# Altium footprint library Connector_Coaxial.PcbLib: 37 footprints (part 1 of 3)
Each footprint in its own frame and in the unit in brackets; x right, y up, seen from the top. Pads: shape width x height; smd on the part's side, far side on the other; paste and mask are expansions set on the pad; w line width, h text height; cw(c..) or ccw(c..) is an arc to the next point about the centre after c.
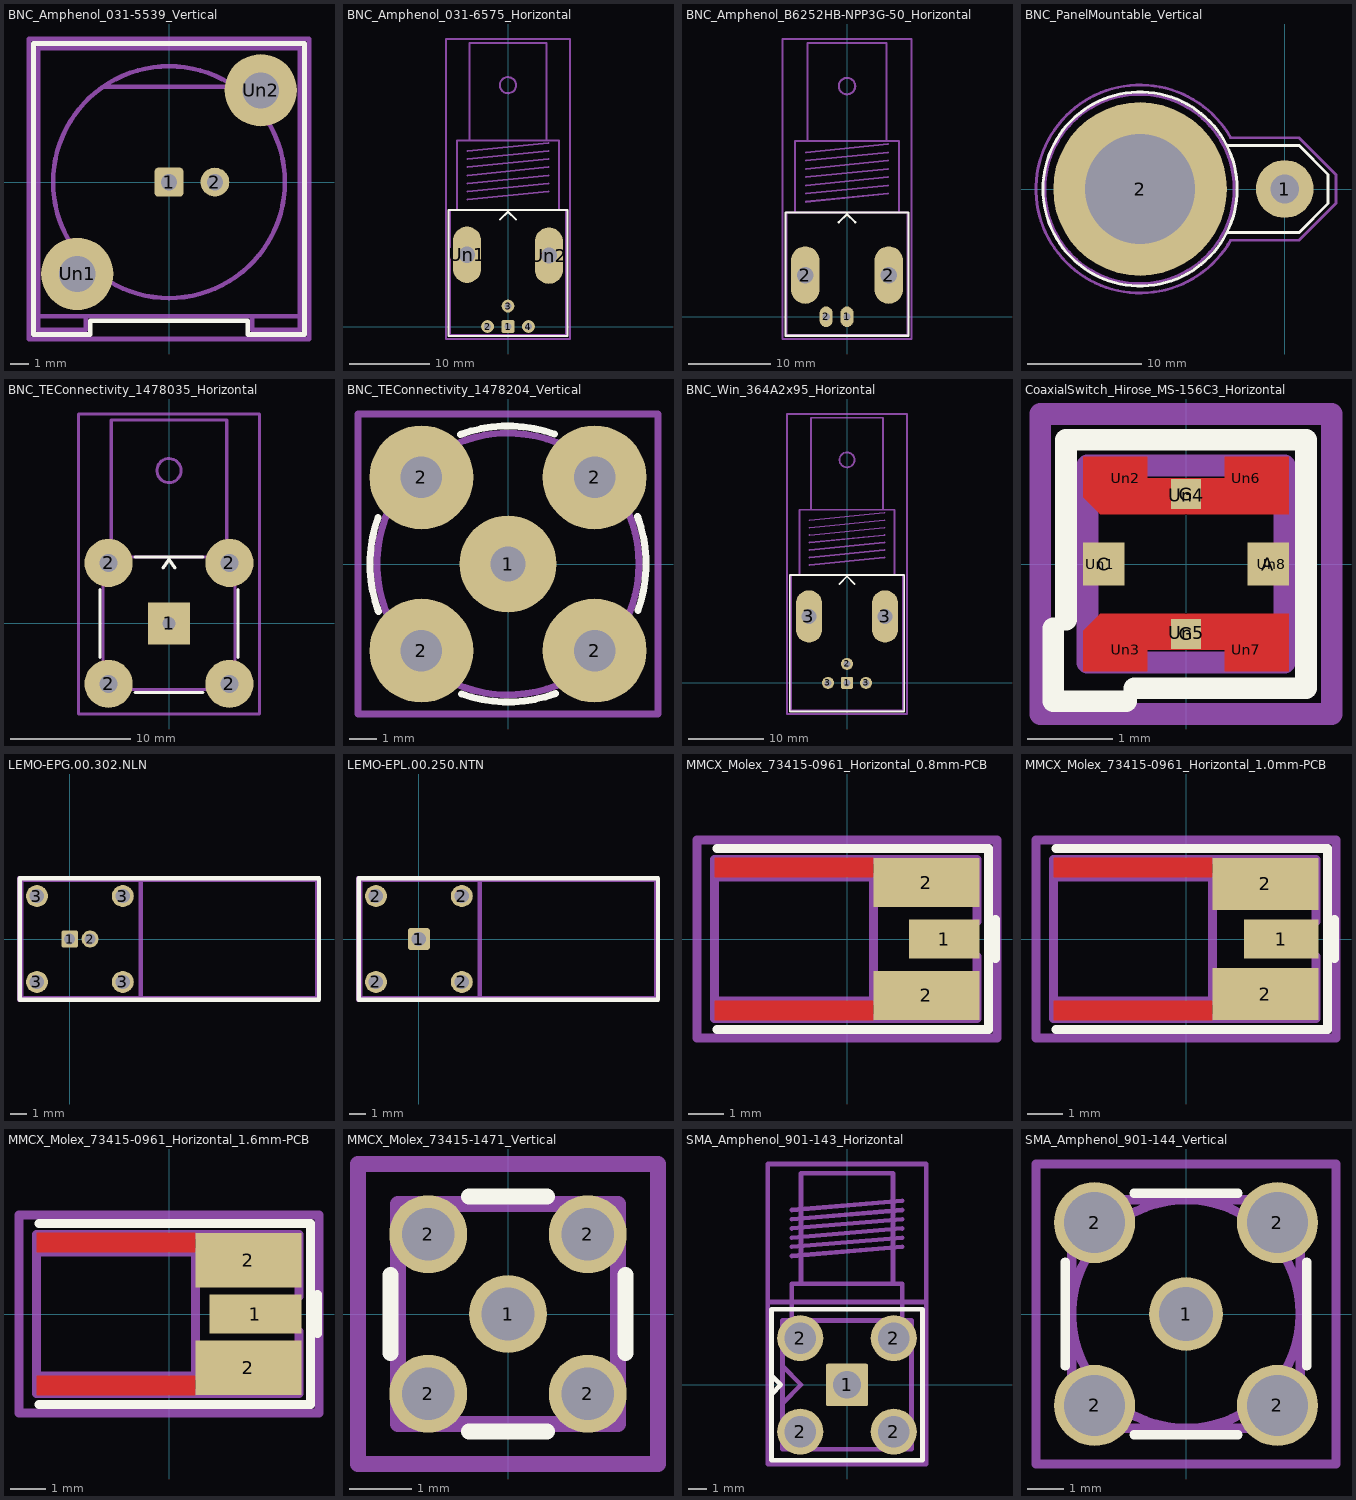
[diagram p0: the footprints below, top view; thin cyan lines are the x and y axes]

## BNC_Amphenol_031-5539_Vertical [mm]
pads (4):
  rrect25% 1.6x1.6 hole 0.9: 1(0,0)
  round 1.6 hole 0.9: 2(2.54,0)
  round 4 hole 2: Un1(-5.08,-5.08) Un2(5.08,5.08)
F.SilkS:
  lines w0.254: -7.5,-8.43 -4.35,-8.43 -4.35,-7.67 4.35,-7.67 4.35,-8.43 7.5,-8.43 7.5,7.67 -7.5,7.67 -7.5,-8.43
Top Assembly:
  circle w0.254: c0,0 r6.415
  lines w0.254: -3.636,5.285 3.636,5.285 ; -7.25,-7.42 7.25,-7.42 ; -7.25,-7.42 -7.25,7.42 7.25,7.42 7.25,-7.42 ; -7.25,-7.42 -4.6,-7.42 -4.6,-8.18 -7.25,-8.18 -7.25,-7.42 ; 7.25,-7.42 4.6,-7.42 4.6,-8.18 7.25,-8.18 7.25,-7.42
  text "'.Designator'" at -4.047,-0.84 h1
Top Courtyard:
  lines w0.254: -7.75,-8.68 7.75,-8.68 7.75,7.92 -7.75,7.92 -7.75,-8.68
Top Designator:
  text ".Designator" at -7.618,-0.888 h1.52

## BNC_Amphenol_031-6575_Horizontal [mm]
pads (6):
  rrect25% 1.6x1.6 hole 0.89: 1(0,0)
  round 1.6 hole 0.89: 2(-2.54,0) 3(0,2.54) 4(2.54,0)
  rrect100% 3.5x7 hole 2.01: Un1(-5.08,8.89) Un2(5.08,8.79)
F.SilkS:
  lines w0.254: -1,13.25 0,14.25 1,13.25 ; -7.35,-1.2 7.35,-1.2 7.35,14.45 -7.35,14.45 -7.35,-1.2
Top Assembly:
  circle w0.254: c0,29.92 r1
  lines w0.254: -6.35,14.45 -6.35,23.05 6.35,23.05 6.35,14.45 ; -5,15.75 5,16.75 ; -5,16.75 5,17.75 ; -5,17.75 5,18.75 ; -5,18.75 5,19.75 ; -5,19.75 5,20.75 ; -5,20.75 5,21.75 ; -5,21.75 5,22.75 ; -4.8,23.05 -4.8,35.15 4.8,35.15 4.8,23.05 ; -7.2,-1.05 7.2,-1.05 7.2,14.45 -7.2,14.45 -7.2,-1.05
  text "'.Designator'" at -4.047,-0.84 h1
Top Courtyard:
  lines w0.254: -7.7,-1.55 7.7,-1.55 7.7,35.65 -7.7,35.65 -7.7,-1.55
Top Designator:
  text ".Designator" at -7.618,16.542 h1.52

## BNC_Amphenol_B6252HB-NPP3G-50_Horizontal [mm]
pads (4):
  rrect100% 1.6x2.5 hole 0.89: 1(0,0) 2(-2.54,0)
  rrect100% 3.5x7 hole 2.01: 2(-5.08,5.08) 2(5.08,5.08)
F.SilkS:
  lines w0.254: -1,11.5 0,12.5 1,11.5 ; -7.5,-2.3 7.5,-2.3 7.5,12.7 -7.5,12.7 -7.5,-2.3
Top Assembly:
  circle w0.254: c0,28.07 r1
  lines w0.254: -6.35,12.7 -6.35,21.4 6.35,21.4 6.35,12.7 ; -5,14 5,15 ; -5,15 5,16 ; -5,16 5,17 ; -5,17 5,18 ; -5,18 5,19 ; -5,19 5,20 ; -5,20 5,21 ; -4.8,21.4 -4.8,33.3 4.8,33.3 4.8,21.4 ; -7.35,-2.2 7.35,-2.2 7.35,12.7 -7.35,12.7 -7.35,-2.2
  text "'.Designator'" at -4.047,-0.84 h1
Top Courtyard:
  lines w0.254: -7.85,-2.7 7.85,-2.7 7.85,33.8 -7.85,33.8 -7.85,-2.7
Top Designator:
  text ".Designator" at -7.618,15.042 h1.52

## BNC_PanelMountable_Vertical [mm]
pads (2):
  round 5.08 hole 2.54: 1(0,0)
  round 15.24 hole 9.65: 2(-12.7,0)
F.SilkS:
  circle w0.254: c-12.7,0 r8.519
  lines w0.254: -5.08,-3.81 1.27,-3.81 3.81,-1.27 3.81,1.27 1.27,3.81 -5.08,3.81
Top Assembly:
  circle w0.254: c-12.75,0 r8.31
  text "'.Designator'" at -12.937,-0.84 h1
Top Courtyard:
  lines w0.254: -4.75,4.5 1.25,4.5 4.5,1.25 4.5,-1.25 1.25,-4.5 -4.75,-4.5 cw(c-12.7,0) -4.748,4.497
Top Designator:
  text ".Designator" at -16.285,-0.508 h1.52

## BNC_TEConnectivity_1478035_Horizontal [mm]
pads (5):
  rect 3.5x3.5 hole 1.1: 1(0,0)
  round 4 hole 1.5: 2(-5.025,-5.025) 2(-5.025,5.025) 2(5.025,-5.025) 2(5.025,5.025)
F.SilkS:
  lines w0.254: -5.73,-2.825 -5.73,2.825 ; -2.825,-5.73 2.825,-5.73 ; -2.825,5.5 2.825,5.5 ; -0.5,4.6 0,5.3 0.5,4.6 ; 5.73,-2.825 5.73,2.825
Top Assembly:
  circle w0.254: c0,12.7 r1
  lines w0.254: -4.8,5.5 -4.8,16.9 4.8,16.9 4.8,5.5 ; -5.5,-5.5 5.5,-5.5 5.5,5.5 -5.5,5.5 -5.5,-5.5
  text "'.Designator'" at -4.047,-0.84 h1
Top Courtyard:
  lines w0.254: -7.53,-7.53 7.53,-7.53 7.53,17.4 -7.53,17.4 -7.53,-7.53
Top Designator:
  text ".Designator" at -7.618,4.427 h1.52

## BNC_TEConnectivity_1478204_Vertical [mil]
pads (5):
  round 140 hole 50: 1(0,0)
  round 150 hole 60: 2(-125,-125) 2(-125,125) 2(125,-125) 2(125,125)
F.SilkS:
  lines w10: -187.54,67.43 ccw(c0,0) -187.01,-68.9 ; -68.9,187.01 cw(c0,0) 67.43,187.54 ; -67.43,-187.54 ccw(c0,0) 68.9,-187.01 ; 187.01,68.9 cw(c0,0) 187.54,-67.43
Top Assembly:
  circle w10: c0,0 r188.98
  text "'.Designator'" at -159.32,-33.08 h39.37
Top Courtyard:
  lines w10: -216.54,-216.54 216.54,-216.54 216.54,216.54 -216.54,216.54 -216.54,-216.54
Top Designator:
  text ".Designator" at -299.9,-19.99 h60

## BNC_Win_364A2x95_Horizontal [mm]
pads (6):
  rrect25% 1.6x1.6 hole 0.89: 1(0,0)
  round 1.6 hole 0.89: 2(0,2.54) 3(-2.54,0) 3(2.54,0)
  rrect100% 3.5x7 hole 2.01: 3(-5.08,8.89) 3(5.08,8.89)
F.SilkS:
  lines w0.254: -1,13.25 0,14.25 1,13.25 ; -7.65,-3.8 7.65,-3.8 7.65,14.45 -7.65,14.45 -7.65,-3.8
Top Assembly:
  circle w0.254: c0,29.82 r1
  lines w0.254: -6.35,14.45 -6.35,23.15 6.35,23.15 6.35,14.45 ; -5,15.75 5,16.75 ; -5,16.75 5,17.75 ; -5,17.75 5,18.75 ; -5,18.75 5,19.75 ; -5,19.75 5,20.75 ; -5,20.75 5,21.75 ; -5,21.75 5,22.75 ; -4.8,23.15 -4.8,35.45 4.8,35.45 4.8,23.15 ; -7.5,-3.65 7.5,-3.65 7.5,14.45 -7.5,14.45 -7.5,-3.65
  text "'.Designator'" at -4.047,-0.74 h1
Top Courtyard:
  lines w0.254: -8,-4.15 8,-4.15 8,35.95 -8,35.95 -8,-4.15
Top Designator:
  text ".Designator" at -7.618,15.392 h1.52

## CoaxialSwitch_Hirose_MS-156C3_Horizontal [mm]
pads (12):
  rect 0.48x0.5 smd: A(0.96,0) C(-0.96,0)
  rect 0.35x0.35 smd: G(0,-0.815) G(0,0.815)
  rect 0.3x0.4 on Top Paste: Un1(-1,0) Un8(1,0)
  rect 0.4x0.4 on Top Paste: Un2(-0.7,1) Un3(-0.7,-1) Un6(0.7,1) Un7(0.7,-1)
  rect 0.5x0.3 on Top Paste: Un4(0,0.8) Un5(0,-0.8)
F.Cu:
  region: 1.2,-1.25 0.45,-1.25 0.45,-1 -0.45,-1 -0.45,-1.25 -1.2,-1.25 -1.2,-0.78 -1,-0.58 1.2,-0.58
  region: 1.2,0.58 -1,0.58 -1.2,0.78 -1.2,1.25 -0.45,1.25 -0.45,1 0.45,1 0.45,1.25 1.2,1.25
F.SilkS:
  lines w0.254: -1.55,-0.75 -1.55,-1.6 -0.7,-1.6 ; -1.4,-0.65 -1.4,1.45 1.4,1.45 1.4,-1.45 -0.6,-1.45
F.Mask:
  region: 1.2,-1.25 0.45,-1.25 0.45,-1 -0.45,-1 -0.45,-1.25 -1.2,-1.25 -1.2,-0.78 -1,-0.58 1.2,-0.58
  region: 1.2,0.58 -1,0.58 -1.2,0.78 -1.2,1.25 -0.45,1.25 -0.45,1 0.45,1 0.45,1.25 1.2,1.25
  lines w0.254: -1.15,-0.725 1.15,-0.725 1.15,0.725 -1.15,0.725 -1.15,-0.725
Top Assembly:
  lines w0.254: -1.15,-1.15 1.15,-1.15 1.15,1.15 -1.15,1.15 -1.15,-1.15
  text "'.Designator'" at -2.428,-0.504 h0.6
Top Courtyard:
  lines w0.254: -1.7,-1.75 1.7,-1.75 1.7,1.75 -1.7,1.75 -1.7,-1.75
Top Designator:
  text ".Designator" at -7.708,-0.508 h1.52
Cmts.User:
  text "KEEPOUT" at -1.291,0.2 h0.4
  text "No Resist" at -0.696,-0.555 h0.2
  text "No Traces" at -0.726,-0.15 h0.2

## LEMO-EPG.00.302.NLN [mm]
pads (6):
  rrect25% 1x1 hole 0.65: 1(0,0)
  round 1 hole 0.65: 2(1.2,0)
  round 1.3 hole 0.85: 3(-1.94,-2.54) 3(-1.94,2.54) 3(3.14,-2.54) 3(3.14,2.54)
F.SilkS:
  lines w0.254: -2.96,-3.6 14.74,-3.6 14.74,3.6 -2.96,3.6 -2.96,-3.6
Top Assembly:
  lines w0.254: -2.86,-3.5 14.64,-3.5 14.64,3.5 -2.86,3.5 -2.86,-3.5
  text "'.Designator'" at -4.047,3.76 h1
Top Courtyard:
  lines w0.254: -3,-3.6 4.2,-3.6 4.2,3.6 -3,3.6 -3,-3.6
Top Designator:
  text ".Designator" at -2.282,0.107 h1.52

## LEMO-EPL.00.250.NTN [mm]
pads (5):
  rrect25% 1.3x1.3 hole 0.85: 1(0,0)
  round 1.3 hole 0.85: 2(-2.54,-2.54) 2(-2.54,2.54) 2(2.54,-2.54) 2(2.54,2.54)
F.SilkS:
  lines w0.254: -3.56,-3.6 14.14,-3.6 14.14,3.6 -3.56,3.6 -3.56,-3.6
Top Assembly:
  lines w0.254: -3.46,-3.5 14.04,-3.5 14.04,3.5 -3.46,3.5 -3.46,-3.5
  text "'.Designator'" at -4.047,3.76 h1
Top Courtyard:
  lines w0.254: -3.6,-3.6 3.6,-3.6 3.6,3.6 -3.6,3.6 -3.6,-3.6
Top Designator:
  text ".Designator" at -2.582,0.107 h1.52

## MMCX_Molex_73415-0961_Horizontal_0.8mm-PCB [mm]
pads (3):
  rect 2x1.1 smd: 1(2.75,0)
  rect 3x1.4 smd: 2(2.25,-1.6) 2(2.25,1.6)
F.Cu:
  region: 0.75,-2.3 -3.75,-2.3 -3.75,-1.75 0.75,-1.75
  region: 0.75,1.75 -3.75,1.75 -3.75,2.3 0.75,2.3
F.SilkS:
  lines w0.254: -3.69,-2.56 4.01,-2.56 4.01,2.56 -3.69,2.56 ; 4.21,-0.55 4.21,0.55
F.Paste:
  region: 0.75,-2.3 -3.75,-2.3 -3.75,-1.75 0.75,-1.75
  region: 0.75,1.75 -3.75,1.75 -3.75,2.3 0.75,2.3
F.Mask:
  region: 0.75,-2.3 -3.75,-2.3 -3.75,-1.75 0.75,-1.75
  region: 0.75,1.75 -3.75,1.75 -3.75,2.3 0.75,2.3
Top Assembly:
  lines w0.254: -3.75,-2.25 3.68,-2.25 3.68,-0.5 3.18,0 3.68,0.5 3.68,2.25 -3.75,2.25 -3.75,-2.25
  text "'.Designator'" at -5.597,-0.84 h1
Top Courtyard:
  lines w0.254: -4.25,-2.8 4.25,-2.8 4.25,2.8 -4.25,2.8 -4.25,-2.8
Top Designator:
  text ".Designator" at -8.302,-0.508 h1.52
Board Shape:
  lines w0.254: -3.75,-1.75 0.75,-1.75 0.75,1.75 -3.75,1.75
Dwgs.User:
  lines w0.254: -3.75,-1.75 -3.75,1.75
  text "PCB edge" at -3.023,-1.379 h0.4

## MMCX_Molex_73415-0961_Horizontal_1.0mm-PCB [mm]
pads (3):
  rect 2.1x1.1 smd: 1(2.7,0)
  rect 3x1.48 smd: 2(2.25,-1.56) 2(2.25,1.56)
F.Cu:
  region: 0.75,-2.3 -3.75,-2.3 -3.75,-1.75 0.75,-1.75
  region: 0.75,1.75 -3.75,1.75 -3.75,2.3 0.75,2.3
F.SilkS:
  lines w0.254: -3.69,-2.56 4.01,-2.56 4.01,2.56 -3.69,2.56 ; 4.21,-0.55 4.21,0.55
F.Paste:
  region: 0.75,-2.3 -3.75,-2.3 -3.75,-1.75 0.75,-1.75
  region: 0.75,1.75 -3.75,1.75 -3.75,2.3 0.75,2.3
F.Mask:
  region: 0.75,-2.3 -3.75,-2.3 -3.75,-1.75 0.75,-1.75
  region: 0.75,1.75 -3.75,1.75 -3.75,2.3 0.75,2.3
Top Assembly:
  lines w0.254: -3.75,-2.25 3.68,-2.25 3.68,-0.5 3.18,0 3.68,0.5 3.68,2.25 -3.75,2.25 -3.75,-2.25
  text "'.Designator'" at -5.597,-0.84 h1
Top Courtyard:
  lines w0.254: -4.25,-2.8 4.25,-2.8 4.25,2.8 -4.25,2.8 -4.25,-2.8
Top Designator:
  text ".Designator" at -8.302,-0.508 h1.52
Board Shape:
  lines w0.254: -3.75,-1.75 0.75,-1.75 0.75,1.75 -3.75,1.75
Dwgs.User:
  lines w0.254: -3.75,-1.75 -3.75,1.75
  text "PCB edge" at -3.023,-1.379 h0.4

## MMCX_Molex_73415-0961_Horizontal_1.6mm-PCB [mm]
pads (3):
  rect 2.6x1.1 smd: 1(2.45,0)
  rect 3x1.55 smd: 2(2.25,-1.525) 2(2.25,1.525)
F.Cu:
  region: 0.75,-2.3 -3.75,-2.3 -3.75,-1.75 0.75,-1.75
  region: 0.75,1.75 -3.75,1.75 -3.75,2.3 0.75,2.3
F.SilkS:
  lines w0.254: -3.69,-2.56 4.01,-2.56 4.01,2.56 -3.69,2.56 ; 4.21,-0.55 4.21,0.55
F.Paste:
  region: 0.75,-2.3 -3.75,-2.3 -3.75,-1.75 0.75,-1.75
  region: 0.75,1.75 -3.75,1.75 -3.75,2.3 0.75,2.3
F.Mask:
  region: 0.75,-2.3 -3.75,-2.3 -3.75,-1.75 0.75,-1.75
  region: 0.75,1.75 -3.75,1.75 -3.75,2.3 0.75,2.3
Top Assembly:
  lines w0.254: -3.75,-2.25 3.68,-2.25 3.68,-0.5 3.18,0 3.68,0.5 3.68,2.25 -3.75,2.25 -3.75,-2.25
  text "'.Designator'" at -5.597,-0.84 h1
Top Courtyard:
  lines w0.254: -4.25,-2.8 4.25,-2.8 4.25,2.8 -4.25,2.8 -4.25,-2.8
Top Designator:
  text ".Designator" at -8.302,-0.508 h1.52
Board Shape:
  lines w0.254: -3.75,-1.75 0.75,-1.75 0.75,1.75 -3.75,1.75
Dwgs.User:
  lines w0.254: -3.75,-1.75 -3.75,1.75
  text "PCB edge" at -3.023,-1.379 h0.4

## MMCX_Molex_73415-1471_Vertical [mm]
pads (5):
  round 1.24 hole 0.84: 1(0,0) 2(-1.27,-1.27) 2(-1.27,1.27) 2(1.27,-1.27) 2(1.27,1.27)
F.SilkS:
  lines w0.254: -1.87,-0.62 -1.87,0.62 ; -0.62,-1.87 0.62,-1.87 ; -0.62,1.87 0.62,1.87 ; 1.87,-0.62 1.87,0.62
Top Assembly:
  lines w0.254: -1.755,-1.755 1.755,-1.755 1.755,1.755 -1.755,1.755 -1.755,-1.755
  text "'.Designator'" at -3.237,-0.672 h0.8
Top Courtyard:
  lines w0.254: -2.39,-2.39 2.39,-2.39 2.39,2.39 -2.39,2.39 -2.39,-2.39
Top Designator:
  text ".Designator" at -7.738,-0.508 h1.52

## SMA_Amphenol_901-143_Horizontal [mm]
pads (5):
  rrect9% 2.3x2.3 hole 1.5: 1(0,0)
  round 2.5 hole 1.7: 2(-2.54,-2.54) 2(-2.54,2.54) 2(2.54,-2.54) 2(2.54,2.54)
F.SilkS:
  lines w0.254: -4.1,-0.5 -3.6,0 -4.1,0.5 ; -4.1,-4.1 4.1,-4.1 4.1,4.1 -4.1,4.1 -4.1,-4.1
Top Assembly:
  lines w0.254: -3.5,-1 -2.5,0 -3.5,1 ; -3,3.5 -3,5.5 3,5.5 3,3.5 ; -3,7 3,7.5 ; -3,7.5 3,8 ; -3,8 3,8.5 ; -3,8.5 3,9 ; -3,9 3,9.5 ; -3,9.5 3,10 ; -2.5,5.5 -2.5,11.5 2.5,11.5 2.5,5.5 ; -3.5,-3.5 3.5,-3.5 3.5,3.5 -3.5,3.5 -3.5,-3.5
  text "'.Designator'" at -4.047,-0.84 h1
Top Courtyard:
  lines w0.254: -4.3,-4.3 4.3,-4.3 4.3,12 -4.3,12 -4.3,-4.3
Top Designator:
  text ".Designator" at -7.618,3.342 h1.52
Board Shape:
  lines w0.254: -4.3,4.5 4.3,4.5

## SMA_Amphenol_901-144_Vertical [mm]
pads (5):
  round 2.05 hole 1.5: 1(0,0)
  round 2.25 hole 1.7: 2(-2.54,-2.54) 2(-2.54,2.54) 2(2.54,-2.54) 2(2.54,2.54)
F.SilkS:
  lines w0.254: -3.355,-1.45 -3.355,1.45 ; -1.45,-3.355 1.45,-3.355 ; -1.45,3.355 1.45,3.355 ; 3.355,-1.45 3.355,1.45
Top Assembly:
  circle w0.254: c0,0 r3.175
  lines w0.254: -3.175,-3.175 3.175,-3.175 3.175,3.175 -3.175,3.175 -3.175,-3.175
  text "'.Designator'" at -4.047,-0.84 h1
Top Courtyard:
  lines w0.254: -4.17,-4.17 4.17,-4.17 4.17,4.17 -4.17,4.17 -4.17,-4.17
Top Designator:
  text ".Designator" at -7.618,-0.508 h1.52